# Altium footprint library 10-Pcblib_Xtal.PcbLib: 28 footprints (part 2 of 2)
Each footprint in its own frame and in the unit in brackets; x right, y up, seen from the top. Pads: shape width x height; smd on the part's side, far side on the other; paste and mask are expansions set on the pad; w line width, h text height; cw(c..) or ccw(c..) is an arc to the next point about the centre after c.
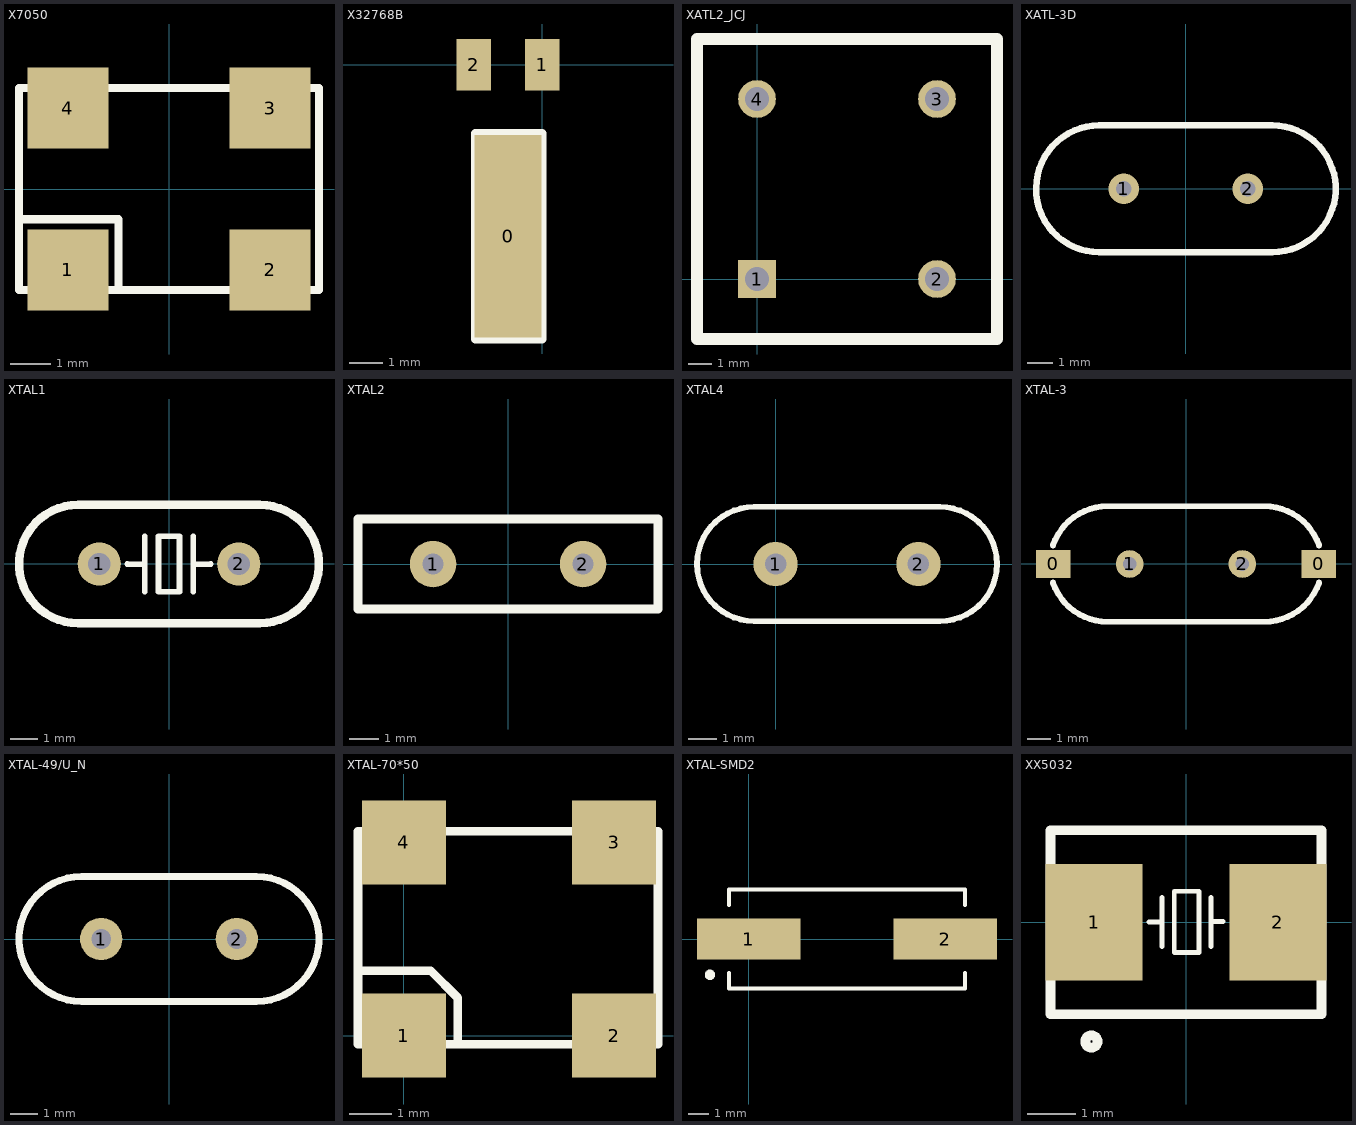
[diagram p1: the footprints below, top view; thin cyan lines are the x and y axes]

## X7050 [mm]
pads (4):
  rect 2x2 smd: 1(-2.5,-2) 2(2.5,-2) 3(2.5,2) 4(-2.5,2)
Top Overlay:
  lines w0.203: -3.607,-0.75 -1.295,-0.75 ; -1.25,-2.5 -1.25,-0.75 ; -3.708,-2.5 3.708,-2.5 3.708,2.5 -3.708,2.5 -3.708,-2.5
3D body: height 1.31, standoff 0, extent -3.525,-2.5 3.475,2.5

## X32768B [mil]
pads (3):
  rect 78.74x236.22 smd: 0(-40,-199.91)
  rect 40x60 smd: 1(0,0) 2(-80,0)
Top Overlay:
  lines w10: 0,-320 -78,-320 -78,-80 0,-80 0,-318

## XATL2_JCJ [mm]
height 0.6
pads (4):
  rect 1.6x1.6 hole 1: 1(0,0)
  round 1.6 hole 1: 2(7.62,0) 3(7.62,7.62) 4(0,7.62)
Top Overlay:
  lines w0.5: -2.54,-2.54 10.16,-2.54 10.16,10.16 0,10.16 -2.54,10.16 -2.54,-2.54
3D body: height 9.3, standoff -3.7, extent -2.743,-2.512 10.257,10.488

## XATL-3D [mm]
pads (2):
  round 1.2 hole 0.6: 1(-2.44,0) 2(2.44,0)
Top Overlay:
  lines w0.254: -5.793,-0.737 cw(c-3.252,-0.009) -5.765,0.809 cw(c-3.4,0) -3.4,2.5 3.4,2.5 cw(c3.4,0) 5.765,0.809 cw(c3.676,0) 5.765,-0.809 cw(c3.4,0) 3.4,-2.5 -3.405,-2.5 ; -5.765,-0.809 ccw(c-3.4,0) -3.4,-2.5
3D body: height 3.5, standoff -3, extent -5.39,-2.255 5.41,2.245

## XTAL1 [mil]
height 200
pads (2):
  round 62 hole 32: 1(-100,0) 2(100,0)
Top Overlay:
  lines w8: -60,0 -39.86,-0.17 ; -35,-40 -35,40 ; 35,-40 35,40 ; 40.14,-0.17 60,0 ; -15,-40 -15,40 15,40 15,-40 -15,-40
  lines w12: -130,-85 cw(c-130,0) -130,85 130,85 cw(c130,0) 130,-85 -130,-85
3D body: height 137.8, standoff -157.48, extent -223.43,-90 223.43,93.07

## XTAL2 [mil]
pads (2):
  round 62 hole 28: 1(-100,0) 2(100,0)
Top Overlay:
  lines w12: -200,-60 200,-60 200,60 -200,60 -200,-60

## XTAL4 [mil]
height 177.17
pads (2):
  round 62 hole 30: 1(0,0) 2(200,0)
Top Overlay:
  lines w8: -30,-80 cw(c-30,0) -30,80 230,80 cw(c230,0) 230,-80 -30,-80

## XTAL-3 [mm]
pads (4):
  rect 1.5x1.2 smd: 0(-5.75,0) 0(5.75,0)
  round 1.2 hole 0.6: 1(-2.44,0) 2(2.44,0)
Top Overlay:
  lines w0.254: -5.766,-0.809 ccw(c-3.4,0) -3.4,-2.5 ; -5.766,0.809 cw(c-3.4,0) -3.4,2.5 3.4,2.5 cw(c3.4,0) 5.765,0.809 ; -3.405,-2.5 3.4,-2.5 ccw(c3.4,0) 5.765,-0.809
3D body: height 3.5, standoff -3, extent -5.39,-2.255 5.41,2.245

## XTAL-49/U_N [mil] "高型晶振（未加焊）"
pads (2):
  round 60 hole 28: 1(-96,0) 2(96,0)
Top Overlay:
  lines w10: -124,-88.5 cw(c-124,0) -124,88.5 124,88.5 cw(c124,0) 124,-88.5 -124,-88.5
3D body: height 511.81, standoff -118.11, extent -212.54,-88.39 212.66,88.78

## XTAL-70*50 [mm]
height 0.102
pads (4):
  rect 2x2 smd: 1(0,0) 2(5,0) 3(5,4.6) 4(0,4.6)
Top Overlay:
  lines w0.2: -1.092,-0.2 6.045,-0.2 ; 1.283,-0.208 1.283,0.902
  lines w0.203: -1.092,-0.2 -1.092,4.859 6.045,4.859 6.045,-0.2 ; -1.092,1.55 0.634,1.55 1.283,0.902
3D body: height 1.61, standoff 0.09, extent -1.036,-0.204 5.964,4.796

## XTAL-SMD2 [mm]
pads (2):
  rect 5x2 smd: 1(0,0) 2(9.5,0)
Top Overlay:
  circle w0.25: c-1.875,-1.73 r0.125
  lines w0.2: -0.95,-1.65 -0.95,-2.4 10.45,-2.4 10.45,-1.65 ; -0.95,1.65 -0.95,2.4 10.45,2.4 10.45,1.65
3D body: height 4, standoff 0, extent -1.95,-2.462 11.45,2.438

## XX5032 [mm]
pads (2):
  rect 2x2.4 smd: 1(-1.9,0) 2(1.9,0)
Top Overlay:
  circle w0.2: c-1.956,-2.464 r0.127
  lines w0.1: -0.762,0.008 -0.496,0.008 ; -0.496,-0.5 -0.496,0.516 ; 0.52,-0.5 0.52,0.516 ; 0.52,0.016 0.762,0.016 ; -0.242,-0.627 -0.242,0.643 0.266,0.643 0.266,0.326 0.266,-0.309 0.266,-0.627 -0.242,-0.627
  lines w0.2: -2.8,-1.9 2.8,-1.9 2.8,1.9 -2.8,1.9 -2.8,-1.9
3D body: height 1, standoff 0, extent -2.5,-1.6 2.5,1.6